# Altium integrated library EVP-BT5A4A000.IntLib: 1 symbol
Pins are listed as number, name and electrical type; pins without a type are passive.

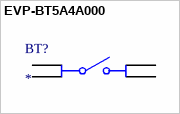
[diagram p0: symbol EVP-BT5A4A000]

## EVP-BT5A4A000
designator BT?
datasheet: https://www.mouser.es/datasheet/2/315/Panasonic_Switch_EVQ_P0_2c_EVQ_Q2_2c_EVQ_6Q2_2c_EV-2064286.pdf; link: https://www.mouser.es/ProductDetail/Panasonic/EVP-BT5A4A000?qs=CiayqK2gdcJIBRNjyDijww%3D%3D
footprint EVP-BT5A4A000 (6 mm Square Thin Type SMD)
pins: 1 COMMON, 2 COMMON, 3 COMMON, 4 COMMON